# Altium footprint library Optoelectronics.PcbLib: 17 footprints (part 1 of 2)
Each footprint in its own frame and in the unit in brackets; x right, y up, seen from the top. Pads: shape width x height; smd on the part's side, far side on the other; paste and mask are expansions set on the pad; w line width, h text height; cw(c..) or ccw(c..) is an arc to the next point about the centre after c.
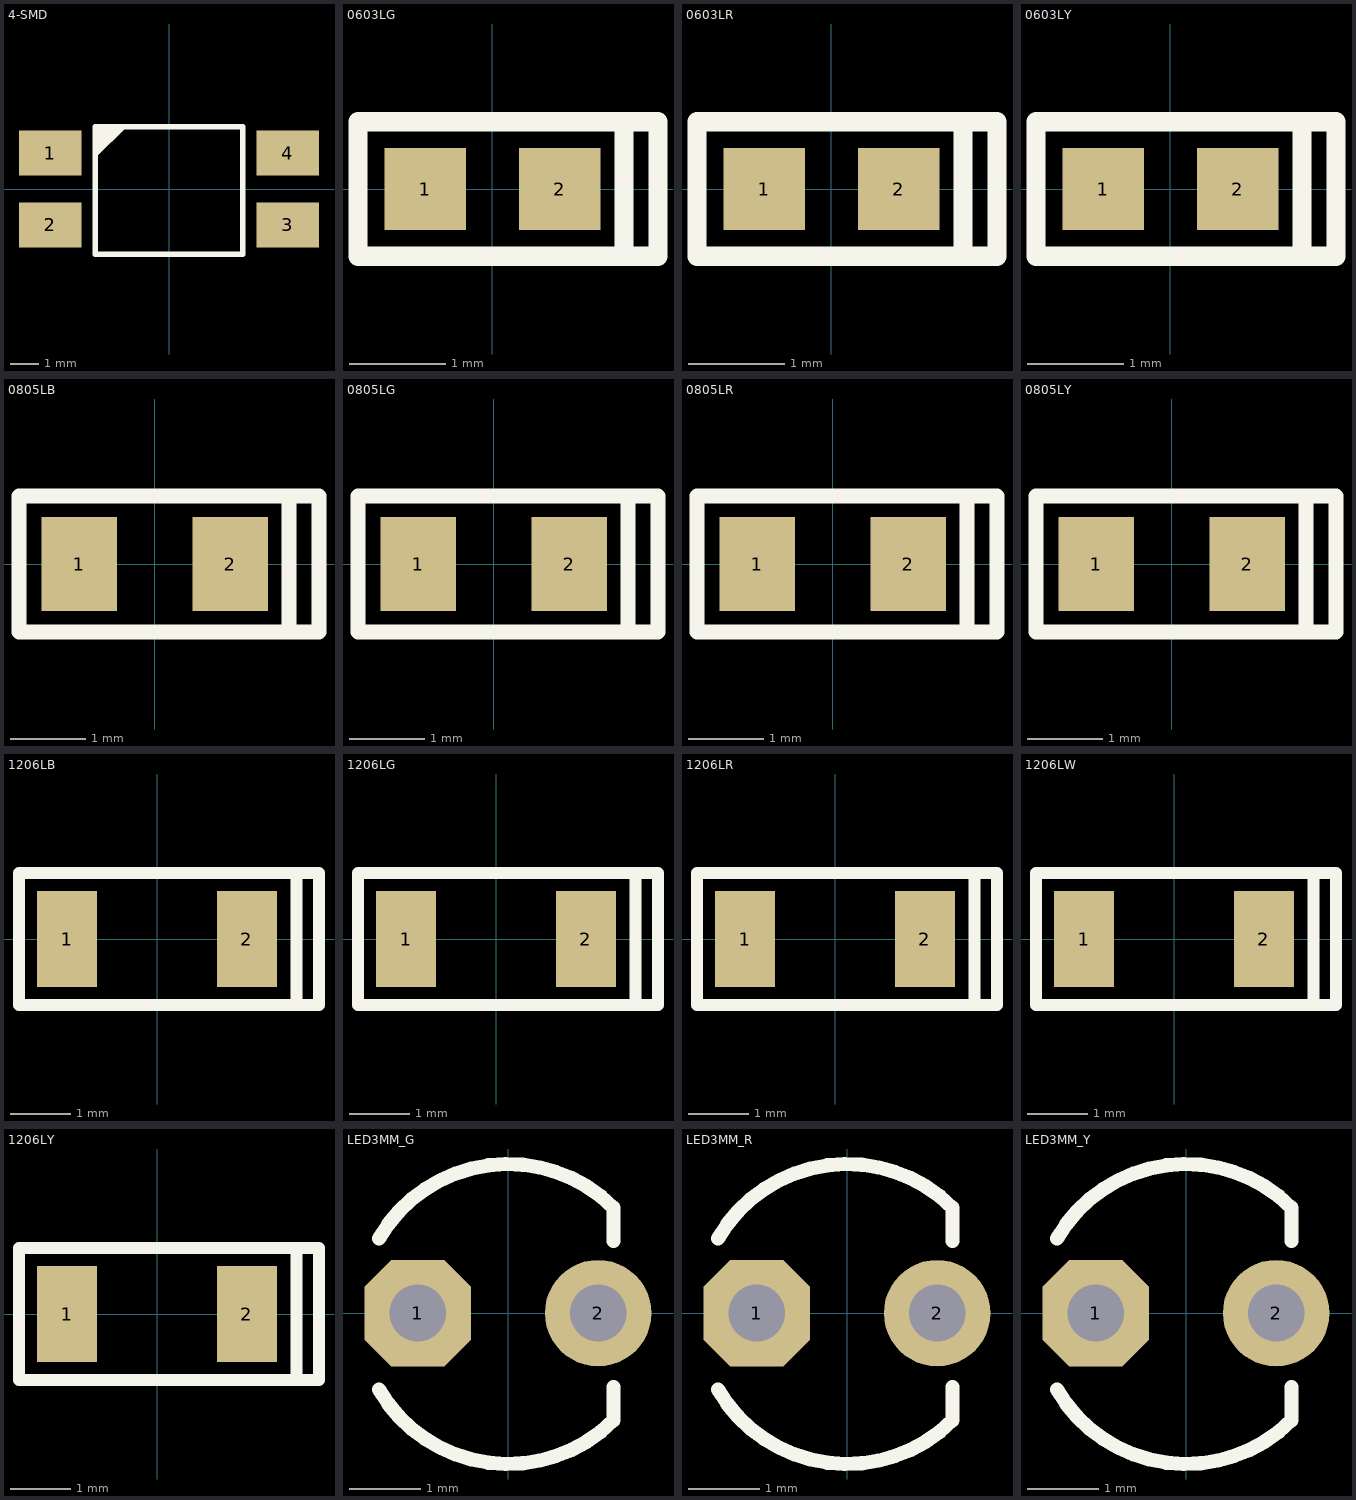
[diagram p0: the footprints below, top view; thin cyan lines are the x and y axes]

## 4-SMD [mm] "SOIC, 4-Leads, Body 4,60x6,50mm, Pitch 1,27mm, IPC Medium Density"
height 4
pads (4):
  rect 2.2x1.6 smd: 1(-4.2,1.27) 2(-4.2,-1.27) 3(4.2,-1.27) 4(4.2,1.27)
Top Overlay:
  region: -2.6,2.2 -1.5,2.2 -2.6,1.1
  lines w0.2: -2.6,-2.3 2.6,-2.3 2.6,2.2 -2.6,2.2 -2.6,-2.3
3D body "PC817 Gullwing Assembly.STEP": height 3.75, standoff -0.1, extent -5,-2.28 5,2.3

## 0603LG [mm]
height 0.45
pads (2):
  rect 0.85x0.85 smd: 1(-0.7,0) 2(0.7,0)
Top Overlay:
  lines w0.2: 1.372,-0.7 1.372,0.7 ; -1.4,-0.7 -1.4,0.7 1.725,0.7 1.725,-0.7 -1.4,-0.7
3D body "User Library-LED_0603_G.STEP": height 0.6, standoff 0, extent -0.8,-0.4 0.8,0.4

## 0603LR [mm]
height 0.45
pads (2):
  rect 0.85x0.85 smd: 1(-0.7,0) 2(0.7,0)
Top Overlay:
  lines w0.2: 1.372,-0.7 1.372,0.7 ; -1.4,-0.7 1.725,-0.7 1.725,0.7 -1.4,0.7 -1.4,-0.7
3D body "User Library-LED_0603_R.STEP": height 0.6, standoff 0, extent -0.8,-0.4 0.8,0.4

## 0603LY [mm]
height 0.45
pads (2):
  rect 0.85x0.85 smd: 1(-0.7,0) 2(0.7,0)
Top Overlay:
  lines w0.2: 1.372,-0.7 1.372,0.7 ; -1.4,-0.7 -1.4,0.7 1.725,0.7 1.725,-0.7 -1.4,-0.7
3D body "User Library-LED_0603_Y.STEP": height 0.6, standoff 0, extent -0.8,-0.4 0.8,0.4

## 0805LB [mm]
height 1
pads (2):
  rect 1x1.25 smd: 1(-1,0) 2(1,0)
Top Overlay:
  lines w0.2: 1.775,-0.9 1.775,0.9 ; -1.8,-0.9 -1.8,0.9 2.175,0.9 2.175,-0.9 -1.8,-0.9
3D body "User Library-LED0805.STEP": height 0.8, standoff 0, extent -1.05,-0.675 1.05,0.675

## 0805LG [mm]
height 1
pads (2):
  rect 1x1.25 smd: 1(-1,0) 2(1,0)
Top Overlay:
  lines w0.2: 1.775,-0.9 1.775,0.9 ; -1.8,-0.9 -1.8,0.9 2.175,0.9 2.175,-0.9 -1.8,-0.9
3D body "led_0805 GRE.STEP": height 1.1, standoff 0, extent -1.01,-0.625 1.01,0.625

## 0805LR [mm]
height 1
pads (2):
  rect 1x1.25 smd: 1(-1,0) 2(1,0)
Top Overlay:
  lines w0.2: 1.775,-0.9 1.775,0.9 ; -1.8,-0.9 -1.8,0.9 2.175,0.9 2.175,-0.9 -1.8,-0.9
3D body "User Library-CHIPLED-0805.STEP": height 0.9, standoff -0.01, extent -1.05,-0.675 1.05,0.675

## 0805LY [mm]
height 1
pads (2):
  rect 1x1.25 smd: 1(-1,0) 2(1,0)
Top Overlay:
  lines w0.2: 1.775,-0.9 1.775,0.9 ; -1.8,-0.9 -1.8,0.9 2.175,0.9 2.175,-0.9 -1.8,-0.9
3D body "led_0805 YEL.STEP": height 1.1, standoff 0, extent -1.01,-0.625 1.01,0.625

## 1206LB [mm]
height 0.6
pads (2):
  rect 1x1.6 smd: 1(-1.5,0) 2(1.5,0)
Top Overlay:
  lines w0.2: 2.325,-1.1 2.325,1.1 ; -2.3,-1.1 2.7,-1.1 2.7,1.1 -2.3,1.1 -2.3,-1.1
3D body "LED 1206 btm.step": height 0.58, standoff 0, extent -1.6,-0.8 1.6,0.8

## 1206LG [mm]
height 0.6
pads (2):
  rect 1x1.6 smd: 1(-1.5,0) 2(1.5,0)
Top Overlay:
  lines w0.2: 2.325,-1.1 2.325,1.1 ; -2.3,-1.1 -2.3,1.1 2.7,1.1 2.7,-1.1 -2.3,-1.1
3D body "LED 1206 btm.step": height 0.58, standoff 0, extent -1.6,-0.8 1.6,0.8

## 1206LR [mm]
height 0.6
pads (2):
  rect 1x1.6 smd: 1(-1.5,0) 2(1.5,0)
Top Overlay:
  lines w0.2: 2.325,-1.1 2.325,1.1 ; -2.3,-1.1 2.7,-1.1 2.7,1.1 -2.3,1.1 -2.3,-1.1
3D body "LED 1206 btm.step": height 0.58, standoff 0, extent -1.6,-0.8 1.6,0.8

## 1206LW [mm]
height 0.6
pads (2):
  rect 1x1.6 smd: 1(-1.5,0) 2(1.5,0)
Top Overlay:
  lines w0.2: 2.325,-1.1 2.325,1.1 ; -2.3,-1.1 2.7,-1.1 2.7,1.1 -2.3,1.1 -2.3,-1.1
3D body "User Library-FYLS-1206.step": height 1.1, standoff 0, extent -1.6,-0.8 1.6,0.8

## 1206LY [mm]
height 0.6
pads (2):
  rect 1x1.6 smd: 1(-1.5,0) 2(1.5,0)
Top Overlay:
  lines w0.2: 2.325,-1.1 2.325,1.1 ; -2.3,-1.1 2.7,-1.1 2.7,1.1 -2.3,1.1 -2.3,-1.1
3D body "LED 1206 btm.step": height 0.58, standoff 0, extent -1.6,-0.8 1.6,0.8

## LED3MM_G [mm]
height 12
pads (2):
  oct 1.5x1.5 hole 0.8: 1(-1.27,0)
  round 1.5 hole 0.8: 2(1.27,0)
Top Overlay:
  lines w0.2: -1.819,-1.075 ccw(c0,-0.025) 1.485,-1.51 1.485,-1.04 ; -1.819,1.05 cw(c0,0) 1.485,1.485 1.485,1.015
3D body "3mm_led_grn.STEP": height 12, standoff -1, extent -2,-2 2,2

## LED3MM_R [mm]
height 12
pads (2):
  oct 1.5x1.5 hole 0.8: 1(-1.27,0)
  round 1.5 hole 0.8: 2(1.27,0)
Top Overlay:
  lines w0.2: -1.819,-1.075 ccw(c0,-0.025) 1.485,-1.51 1.485,-1.04 ; -1.819,1.05 cw(c0,0) 1.485,1.485 1.485,1.015
3D body "3mm_led_red.STEP": height 12, standoff -1, extent -2,-2 2,2

## LED3MM_Y [mm]
height 12
pads (2):
  oct 1.5x1.5 hole 0.8: 1(-1.27,0)
  round 1.5 hole 0.8: 2(1.27,0)
Top Overlay:
  lines w0.2: 1.485,-1.51 cw(c0,-0.025) -1.819,-1.075 ccw(c0,-0.025) 1.485,-1.51 ; 1.485,-1.51 1.485,-1.04 1.485,-1.51 ; 1.485,1.485 ccw(c0,0) -1.819,1.05 cw(c0,0) 1.485,1.485 ; 1.485,1.485 1.485,1.015 1.485,1.485
3D body "3mm_led_yell.STEP": height 12, standoff -1, extent -2,-2 2,2